# Altium footprint library DO-213AB.PcbLib: 1 footprints
Each footprint in its own frame and in the unit in brackets; x right, y up, seen from the top. Pads: shape width x height; smd on the part's side, far side on the other; paste and mask are expansions set on the pad; w line width, h text height; cw(c..) or ccw(c..) is an arc to the next point about the centre after c.
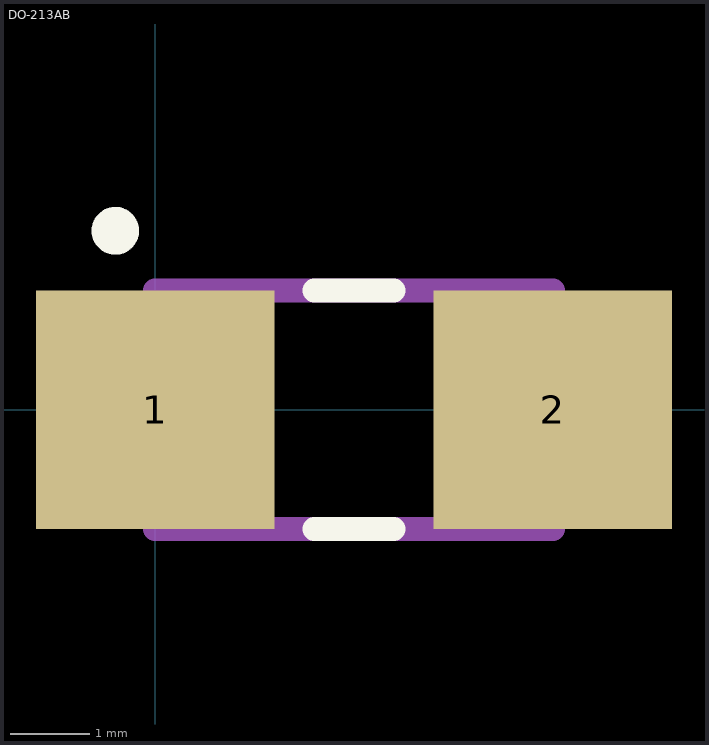
[diagram p0: the footprint, top view; thin cyan lines are the x and y axes]

## DO-213AB [mm]
pads (2):
  rect 3x3 smd: 1(0,0) 2(5,0)
Top Overlay:
  circle w0.3: c-0.5,2.25 r0.15
  lines w0.3: 2,-1.5 3,-1.5 ; 2,1.5 3,1.5
TopAssy:
  lines w0.3: 1,-1.5 1,1.5 ; 0,-1.5 5,-1.5 5,1.5 0,1.5 0,-1.5
3D body "User Library-Vishay - MELF DO-213AB.step": height 2.74, standoff 0.06, extent -0.2,-1.3 5,1.37